# EAGLE library part MOSFET_NCH_DUAL (library discrete)
Dual N-Channel 30-VDS MOSFET Link to datasheet <https://www.fairchildsemi.com/datasheets/FD/FDMA1024NZ.pdf> SparkFun Products: SparkFun Mini FET Shield <https://www.sparkfun.com/products/9627>
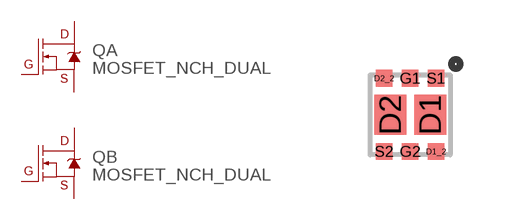
[diagram p2: symbol with the pads of MICROFET_2X2; footprint MICROFET_2X2]

Designator prefix Q; gates A=LABELED-NMOS B=LABELED-NMOS

## MOSFET_NCH_DUAL-FDMA1024NZ (PROD_ID: TRANS-09516; VALUE: 5A/20V/54mΩ)  [MICROFET_2X2]
D1  A:D
D1_2  A:D
D2  B:D
D2_2  B:D
G1  A:G
G2  B:G
S1  A:S
S2  B:S

## Footprint MICROFET_2X2 (pad centres in mm)
1206-8 ChipFET Source: http://www.vishay.com/docs/72593/72593.pdf http://www.vishay.com/docs/71151/71151.pdf
smd 0.8 x 1: D1 0.5,0; D2 -0.5,0
smd 0.42 x 0.42: D1_2 0.65,-0.915; D2_2 -0.65,0.915; G1 0,0.915; G2 0,-0.915; S1 0.65,0.915; S2 -0.65,-0.915